# Altium schematic symbol library ESP32-C3FH4X.Schlib: 1 symbol
Pins are listed as number, name and electrical type; pins without a type are passive.

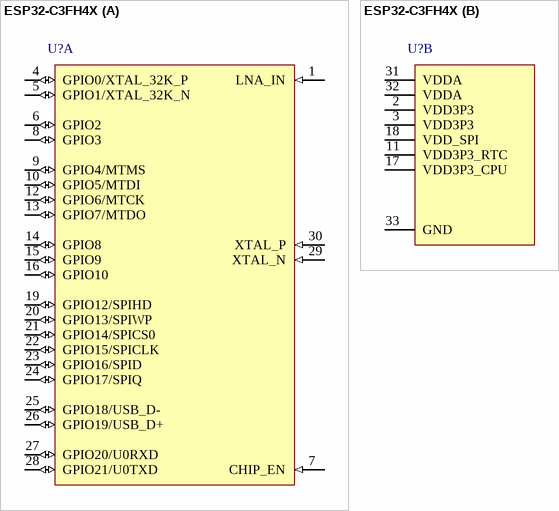
[diagram p0: symbol ESP32-C3FH4X]

## ESP32-C3FH4X
designator U?
part A pins: 1 LNA_IN (in), 4 GPIO0/XTAL_32K_P (io), 5 GPIO1/XTAL_32K_N (io), 6 GPIO2 (io), 7 CHIP_EN (in), 8 GPIO3 (io), 9 GPIO4/MTMS (io), 10 GPIO5/MTDI (io), 12 GPIO6/MTCK (io), 13 GPIO7/MTDO (io), 14 GPIO8 (io), 15 GPIO9 (io), 16 GPIO10 (io), 19 GPIO12/SPIHD (io), 20 GPIO13/SPIWP (io), 21 GPIO14/SPICS0 (io), 22 GPIO15/SPICLK (io), 23 GPIO16/SPID (io), 24 GPIO17/SPIQ (io), 25 GPIO18/USB_D- (io), 26 GPIO19/USB_D+ (io), 27 GPIO20/U0RXD (io), 28 GPIO21/U0TXD (io), 29 XTAL_N (in), 30 XTAL_P (in)
part B pins: 2 VDD3P3 (power), 3 VDD3P3 (power), 11 VDD3P3_RTC (power), 17 VDD3P3_CPU (power), 18 VDD_SPI (power), 31 VDDA (power), 32 VDDA (power), 33 GND (power)